# Altium schematic symbol library Cap_AVX_0603YA301JAT2A_300pF.SchLib: 1 symbol
Pins are listed as number, name and electrical type; pins without a type are passive.

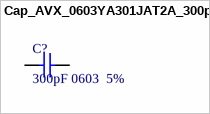
[diagram p0: symbol Cap_AVX_0603YA301JAT2A_300pF]

## Cap_AVX_0603YA301JAT2A_300pF
designator C?, comment 300pF 0603  5%
Multilayer Ceramic Capacitors MLCC - SMD/SMT 16V 300pF C0G 0603 5% Tol; Supplier 1: Mouser; Supplier Part Number 2: 581-0603YA301JAT2A
pins: 1, 2